# EAGLE library part 6621XX231722_662124231722 (library 66200211022_Eagle_WR-MPC3_rev19b)
WR-MPC3 3.00 mm SMT Male Dual Row Angled Header with SMT Solder Tab (Reel) KIND PROPERTIES Pitch 3 mm Gender Male MATERIAL PROPERTIES Insulator Material LCP Insulator Flammability Rating UL94 V-0 Insulator Color Black Contact Material Copper Alloy Contact Plating Tin Contact Type Stamped GENERAL INFORMATION Operating Temperature -40 up to +105 °C Compliance:RoHS Working Voltage 250 V (AC) Withstanding Voltage 1500 V (AC) Contact Resistance 10 mΩ RISO 1000 MΩ CERTIFICATION UL Approval E323964 WIRE PROPERTIES Packaging Tape and Reel <https://katalog.we-online.com/media/images/v2/o33176v209%20Family_WR-MPC3_662xxx231722.jpg> Details see: https://katalog.we-online.com/en/em/MPC3_3_00_SMT_MALE_DUAL_ROW_ANGLED_HEADER_W_SMT_SOLDER_TAB_REEL_6621XX231722 Created by Yingchun,Shan 2019-11-14 2019 (C) Würth Elektronik
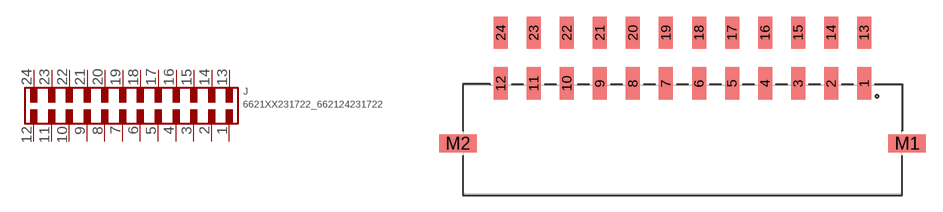
[diagram p32: symbol with the pads of 662124231722; footprint 662124231722]

Designator prefix J

## 6621XX231722_662124231722 (CONTACT-RESISTANCE: 10Ohm; DATASHEET-URL: https://katalog.we-online.com/em/datasheet/662124231722.pdf; GENDER: Male; IR1: 5A; L: 39.7mm; MATE-WITH: WR-MPC3 3.00 mm Female Dual Row Receptacle; MOUNT: SMT; PACKAGING: Tape and Reel; PART-NUMBER: 662124231722; PCB-CABLE-PANEL: PCB; PINS: 24; PITCH: 3mm; ROWS: Dual; TOL-R: max.; TYPE: Right Angled; WORKING-VOLTAGE: 250V(AC))  [662124231722]
1  1  pas
2  2  pas
3  3  pas
4  4  pas
5  5  pas
6  6  pas
7  7  pas
8  8  pas
9  9  pas
10  10  pas
11  11  pas
12  12  pas
13  13  pas
14  14  pas
15  15  pas
16  16  pas
17  17  pas
18  18  pas
19  19  pas
20  20  pas
21  21  pas
22  22  pas
23  23  pas
24  24  pas

## Footprint 662124231722 (pad centres in mm)
WR-MPC3 3.00 mm SMT Male Dual Row Angled Header with SMT Solder Tab, 24 Pins
smd 1.27 x 2.92: 1 16.5,5.13; 2 13.5,5.13; 3 10.5,5.13; 4 7.5,5.13; 5 4.5,5.13; 6 1.5,5.13; 7 -1.5,5.13; 8 -4.5,5.13; 9 -7.5,5.13; 10 -10.5,5.13; 11 -13.5,5.13; 12 -16.5,5.13; 13 16.5,9.75; 14 13.5,9.75; 15 10.5,9.75; 16 7.5,9.75; 17 4.5,9.75; 18 1.5,9.75; 19 -1.5,9.75; 20 -4.5,9.75; 21 -7.5,9.75; 22 -10.5,9.75; 23 -13.5,9.75; 24 -16.5,9.75
smd 3.43 x 1.65: M1 20.395,-0.35; M2 -20.395,-0.35